# EAGLE library part ARDUINOR3SHIELDNOTEXT (library Qtechknow)
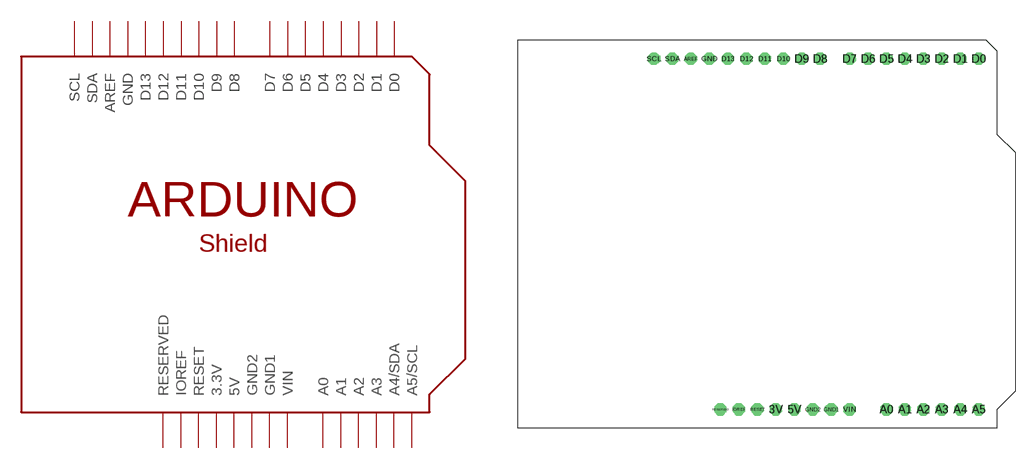
[diagram p3: symbol with the pads of ARDUINOR3NOHOLETEXT; footprint ARDUINOR3NOHOLETEXT]

Designator prefix -

## ARDUINOR3SHIELDNOTEXT  [ARDUINOR3NOHOLETEXT]
3V  3.3V  pwr
5V  5V  pwr
A0  A0
A1  A1
A2  A2
A3  A3
A4  A4/SDA
A5  A5/SCL
AREF  AREF
D0  D0
D1  D1
D2  D2
D3  D3
D4  D4
D5  D5
D6  D6
D7  D7
D8  D8
D9  D9
D10  D10
D11  D11
D12  D12
D13  D13
GND  GND  pwr
GND1  GND1  pwr
GND2  GND2  pwr
IOREF  IOREF  out
RESERVED  RESERVED  nc
RESET  RESET
SCL  SCL
SDA  SDA
VIN  VIN  pwr

## Footprint ARDUINOR3NOHOLETEXT (pad centres in mm)
drill 1 pad 1.676 octagon: 3V -1.27,-22.86; 5V 1.27,-22.86; A0 13.97,-22.86; A1 16.51,-22.86; A2 19.05,-22.86; A3 21.59,-22.86; A4 24.13,-22.86; A5 26.67,-22.86; AREF -12.954,25.4; D0 26.67,25.4; D1 24.13,25.4; D2 21.59,25.4; D3 19.05,25.4; D4 16.51,25.4; D5 13.97,25.4; D6 11.43,25.4; D7 8.89,25.4; D8 4.826,25.4; D9 2.286,25.4; D10 -0.254,25.4; D11 -2.794,25.4; D12 -5.334,25.4; D13 -7.874,25.4; GND -10.414,25.4; GND1 6.35,-22.86; GND2 3.81,-22.86; IOREF -6.35,-22.86; RESERVED -8.89,-22.86; RESET -3.81,-22.86; SCL -18.034,25.4; SDA -15.494,25.4; VIN 8.89,-22.86